# Altium footprint library SparkFun-Connectors.PCBLIB: 386 footprints (part 16 of 25)
Each footprint in its own frame and in the unit in brackets; x right, y up, seen from the top. Pads: shape width x height; smd on the part's side, far side on the other; paste and mask are expansions set on the pad; w line width, h text height; cw(c..) or ccw(c..) is an arc to the next point about the centre after c.
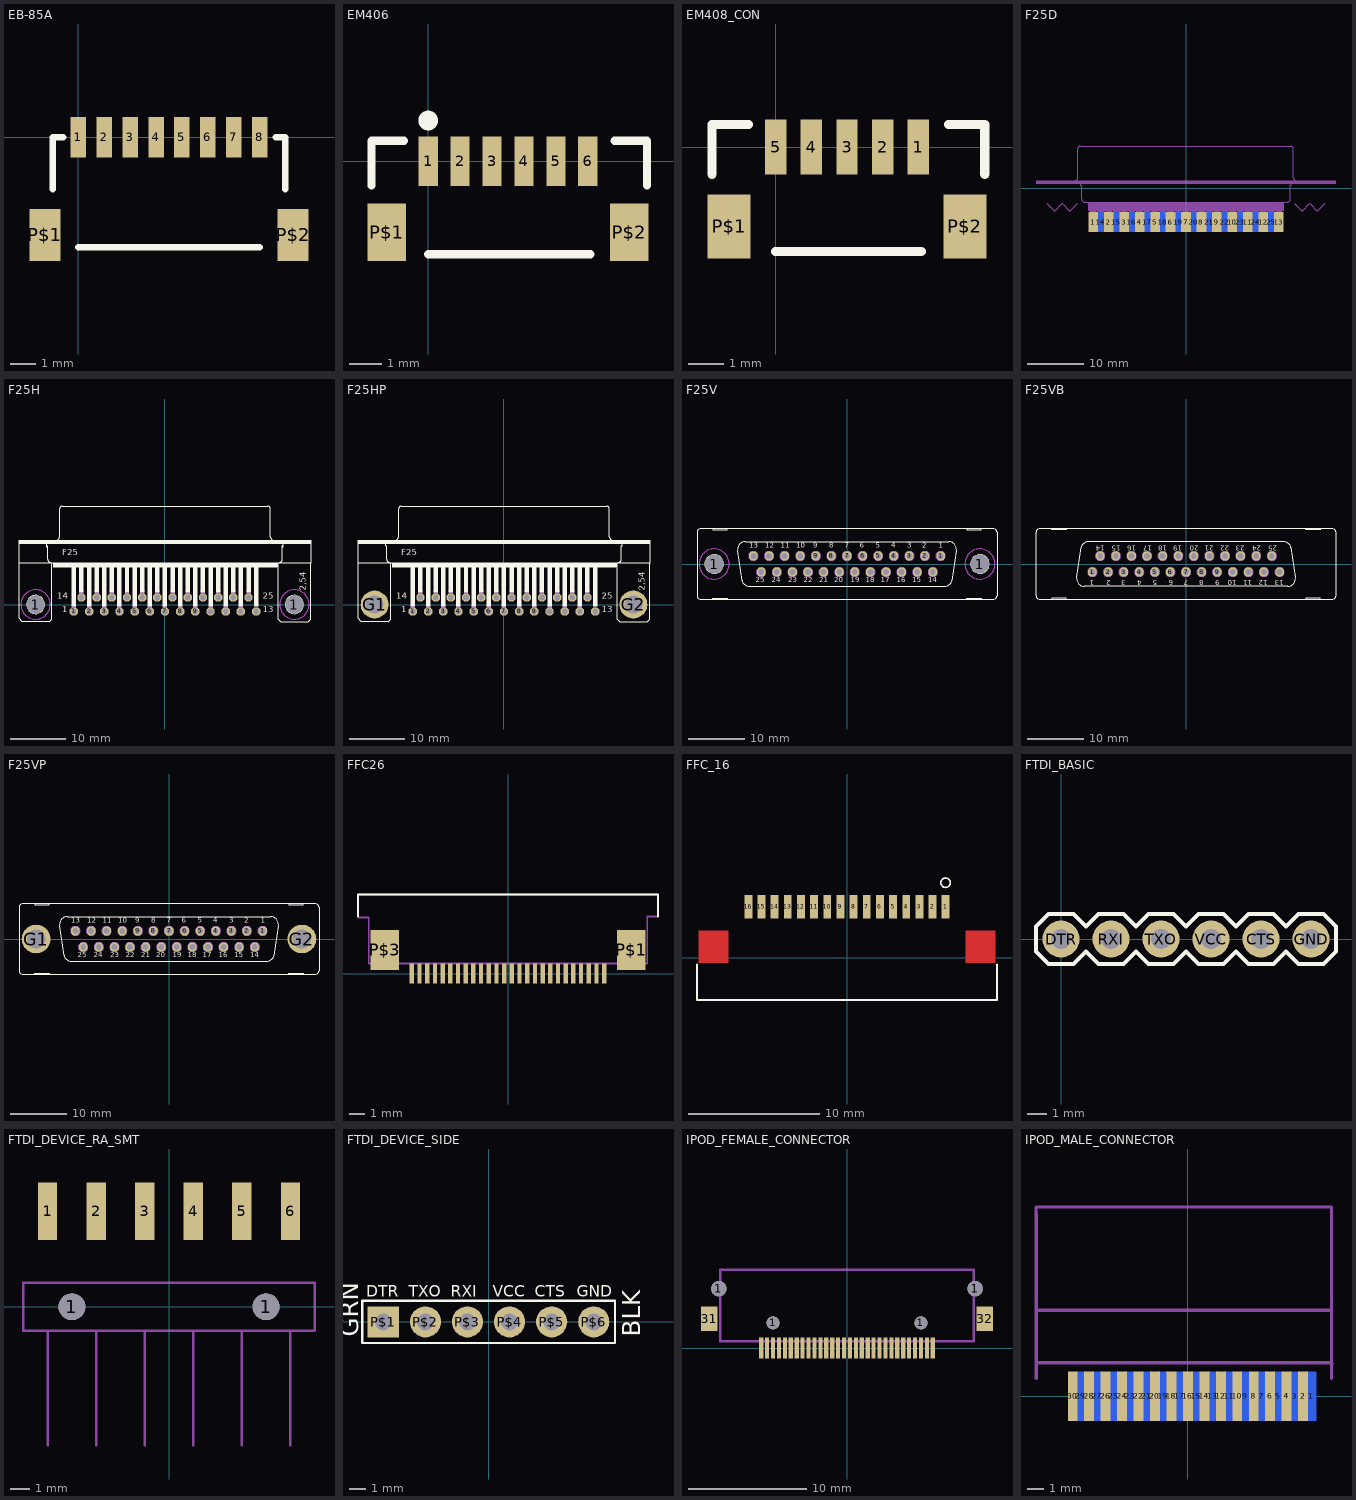
[diagram p15: the footprints below, top view; thin cyan lines are the x and y axes]

## EB-85A [mm]
pads (10):
  rect 0.6x1.55 smd: 1(0,0) 2(1,0) 3(2,0) 4(3,0) 5(4,0) 6(5,0) 7(6,0) 8(7,0)
  rect 1.2x2 smd: P$1(-1.3,-3.775) P$2(8.3,-3.775)
Top Overlay:
  lines w0.254: -1,-2 -1,0 -0.6,0 ; 0,-4.25 7,-4.25 ; 7.625,0 8,0 8,-2

## EM406 [mm]
pads (8):
  rect 0.6x1.55 smd: 1(0,0) 2(1,0) 3(2,0) 4(3,0) 5(4,0) 6(5,0)
  rect 1.2x1.8 smd: P$1(-1.3,-2.225) P$2(6.3,-2.225)
Top Overlay:
  circle w0.406: c0,1.27 r0.105
  lines w0.254: -1.778,-0.762 -1.778,0.635 -0.762,0.635 ; 0,-2.921 5.08,-2.921 ; 5.842,0.635 6.858,0.635 6.858,-0.762

## EM408_CON [mm]
pads (7):
  rect 0.6x1.55 smd: 1(4,0) 2(3,0) 3(2,0) 4(1,0) 5(0,0)
  rect 1.2x1.8 smd: P$1(-1.3,-2.225) P$2(5.3,-2.225)
Top Overlay:
  lines w0.254: -1.778,-0.762 -1.778,0.635 -0.762,0.635 ; 0,-2.921 4.08,-2.921 ; 4.842,0.635 5.858,0.635 5.858,-0.762

## F25D [mil]
pads (25):
  rect 66.93x137.8 smd: 1(-648.01,-237.98) 2(-540,-237.99) 3(-431.99,-237.98) 4(-324.01,-237.98) 5(-215.99,-237.98) 6(-108.01,-237.98) 7(0,-237.99) 8(108.01,-237.98) 9(215.99,-237.98) 10(324.01,-237.98) 11(431.99,-237.98) 12(540,-237.99) 13(648.01,-237.98)
  rect 66.93x137.8 smd far side: 14(-594,-238) 15(-486,-238) 16(-378,-238) 17(-270,-238) 18(-162,-238) 19(-54,-238) 20(54,-238) 21(162,-238) 22(270,-238) 23(378,-238) 24(486,-238) 25(594,-238)
Bottom Overlay:
  text "25" at 626.56,-32.48 h77.5
  text "14" at -553.13,-32.48 h77.5
Mechanical 13:
  lines w0: -972,-108 -918,-162 -864,-108 -810,-162 -756,-108 ; 756,-108 810,-162 864,-108 918,-162 972,-108
  text "Board" at 774,-100 h77.5
  text "Board" at -974,-100 h77.5
Mechanical 16:
  rectangle: -671.62,-258.27 -624.38,-159.84
  rectangle: -563.62,-258.27 -516.38,-159.84
  rectangle: -455.62,-258.27 -408.38,-159.84
  rectangle: -347.62,-258.27 -300.38,-159.84
  rectangle: -239.62,-258.27 -192.38,-159.84
  rectangle: -131.62,-258.27 -84.38,-159.84
  rectangle: -23.62,-258.27 23.62,-159.84
  rectangle: 84.38,-258.27 131.62,-159.84
  rectangle: -1047.24,27.56 1047.24,51.18
  rectangle: -685.04,-161.42 685.04,-98.43
  rectangle: 192.38,-258.27 239.62,-159.84
  rectangle: 300.38,-258.27 347.62,-159.84
  rectangle: 408.38,-258.27 455.62,-159.84
  rectangle: 516.38,-258.27 563.62,-159.84
  rectangle: 624.38,-258.27 671.62,-159.84
  lines w6: -780,48 ccw(c-780,73) -755,73 -755,273 cw(c-735,273) -735,293 730,293 cw(c730,273) 750,273 750,73 ccw(c775,73) 775,48 ; -734,40 -734,20 -729,20 -729,-75 ccw(c-704,-75) -704,-100 ; -704.76,-100 704.76,-100 ; 704,-100 ccw(c704,-75) 729,-75 729,20 734,20 734,40
  text "1" at -665.07,-85.77 h77.5
  text "F25D" at -678,181 h77.5
  text "13" at 612.51,-81.83 h77.5
Mechanical 30:
  rectangle: -617.62,-258.27 -570.38,-159.84
  rectangle: -509.62,-258.27 -462.38,-159.84
  rectangle: -401.62,-258.27 -354.38,-159.84
  rectangle: -293.62,-258.27 -246.38,-159.84
  rectangle: -185.62,-258.27 -138.38,-159.84
  rectangle: -77.62,-258.27 -30.38,-159.84
  rectangle: 30.38,-258.27 77.62,-159.84
  rectangle: 138.38,-258.27 185.62,-159.84
  rectangle: 246.38,-258.27 293.62,-159.84
  rectangle: 354.38,-258.27 401.62,-159.84
  rectangle: 462.38,-258.27 509.62,-159.84
  rectangle: 570.38,-258.27 617.62,-159.84

## F25H [mil]
pads (27):
  round 130 hole 130: 1(-926,0) 1(926,0)
  oct 60x60 hole 40: 1(-652,-50) 2(-543,-50) 3(-435,-50) 4(-326,-50) 5(-217,-50) 6(-109,-50) 7(0,-50) 8(109,-50) 9(217,-50) 10(326,-50) 11(435,-50) 12(543,-50) 13(652,-50) 14(-598,50) 15(-489,50) 16(-380,50) 17(-272,50) 18(-163,50) 19(-54,50) 20(54,50) 21(163,50) 22(272,50) 23(380,50) 24(489,50) 25(598,50)
Top Overlay:
  circle w6: c-926,0 r65
  circle w6: c926,0 r65
  rectangle: -800,270 800,300
  rectangle: -1045,440 1045,460
  rectangle: -668,-15 -636,270
  rectangle: -614,85 -582,270
  rectangle: -559,-15 -527,270
  rectangle: -505,85 -473,270
  rectangle: -451,-15 -419,270
  rectangle: -396,85 -364,270
  rectangle: -342,-15 -310,270
  rectangle: -288,85 -256,270
  rectangle: -233,-15 -201,270
  rectangle: -179,85 -147,270
  rectangle: -125,-15 -93,270
  rectangle: -70,85 -38,270
  rectangle: -16,-15 16,270
  rectangle: 38,85 70,270
  rectangle: 93,-15 125,270
  rectangle: 147,85 179,270
  rectangle: 201,-15 233,270
  rectangle: 255,85 287,270
  rectangle: 310,-15 342,270
  rectangle: 364,85 396,270
  rectangle: 419,-15 451,270
  rectangle: 473,85 505,270
  rectangle: 527,-15 559,270
  rectangle: 582,85 614,270
  rectangle: 636,-15 668,270
  lines w6: -845,410 -845,420 ; -815,300 cw(c-815,325) -840,325 -840,420 -845,420 ; -780,460 ccw(c-780,485) -755,485 -755,685 cw(c-735,685) -735,705 -725,705 725,705 735,705 cw(c735,685) 755,685 755,485 ccw(c780,485) 780,460 ; 815,300 ccw(c815,325) 840,325 840,420 845,420 ; 845,410 845,420 ; -1045,300 -845,300 -810,300 ; -1045,300 -1045,420 -1045,440 ; -1045,300 -1045,295 -1045,-100 -1020,-125 -830,-125 -810,-105 -810,300 ; -1045,440 -1045,460 -740,460 740,460 1045,460 1045,440 ; -1045,440 -945,440 -845,440 ; -845,420 -845,440 ; -845,440 845,440 ; -810,300 -800,300 ; -800,300 -800,270 800,270 800,300 ; -800,300 800,300 ; 800,300 810,300 ; 810,300 845,300 1045,300 ; 810,300 810,-105 830,-125 1025,-125 1045,-105 1045,295 1045,300 ; 845,420 845,440 ; 845,440 945,440 1045,440 ; 1045,300 1045,420 1045,440
  text "1" at -735,-75 h77.5
  text "13" at 700,-75 h77.5
  text "14" at -770,25 h77.5
  text "25" at 700,25 h77.5
  text "2,54" at 1025,100 h77.5
  text "F25" at -735,335 h77.5
Mechanical 9 keep-out:
  circle w0: c-926,0 r105
  circle w0: c926,0 r105
Mechanical 10:
  circle w0: c-926,0 r105
  circle w0: c926,0 r105
Mechanical 16:
  lines w6: 652,-45 652,-5
  lines w32: -652,-45 -652,-5 ; -598,55 -598,95 ; -543,-45 -543,-5 ; -489,55 -489,95 ; -435,-45 -435,-5 ; -380,55 -380,95 ; -326,-45 -326,-5 ; -272,55 -272,95 ; -217,-45 -217,-5 ; -163,55 -163,95 ; -109,-45 -109,-5 ; -54,55 -54,95 ; 0,-45 0,-5 ; 54,55 54,95 ; 109,-45 109,-5 ; 163,55 163,95 ; 217,-45 217,-5 ; 271,55 271,95 ; 326,-45 326,-5 ; 380,55 380,95 ; 435,-45 435,-5 ; 489,55 489,95 ; 543,-45 543,-5 ; 598,55 598,95

## F25HP [mil]
pads (27):
  oct 60x60 hole 40: 1(-652,-50) 2(-543,-50) 3(-435,-50) 4(-326,-50) 5(-217,-50) 6(-109,-50) 7(0,-50) 8(109,-50) 9(217,-50) 10(326,-50) 11(435,-50) 12(543,-50) 13(652,-50) 14(-598,50) 15(-489,50) 16(-380,50) 17(-272,50) 18(-163,50) 19(-54,50) 20(54,50) 21(163,50) 22(272,50) 23(380,50) 24(489,50) 25(598,50)
  round 200 hole 130: G1(-926,0) G2(926,0)
Top Overlay:
  circle w6: c-926,0 r65
  circle w6: c926,0 r65
  rectangle: -800,270 800,300
  rectangle: -1045,440 1045,460
  rectangle: -668,-15 -636,270
  rectangle: -614,85 -582,270
  rectangle: -559,-15 -527,270
  rectangle: -505,85 -473,270
  rectangle: -451,-15 -419,270
  rectangle: -396,85 -364,270
  rectangle: -342,-15 -310,270
  rectangle: -288,85 -256,270
  rectangle: -233,-15 -201,270
  rectangle: -179,85 -147,270
  rectangle: -124,-15 -92,270
  rectangle: -70,85 -38,270
  rectangle: -16,-15 16,270
  rectangle: 38,85 70,270
  rectangle: 93,-15 125,270
  rectangle: 147,85 179,270
  rectangle: 201,-15 233,270
  rectangle: 256,85 288,270
  rectangle: 310,-15 342,270
  rectangle: 364,85 396,270
  rectangle: 419,-15 451,270
  rectangle: 472,85 504,270
  rectangle: 527,-15 559,270
  rectangle: 581,85 613,270
  rectangle: 636,-15 668,270
  lines w6: -815,300 cw(c-815,325) -840,325 -840,420 -845,420 -845,440 ; -780,460 ccw(c-780,485) -755,485 -755,685 cw(c-735,685) -735,705 -725,705 725,705 735,705 cw(c735,685) 755,685 755,485 ccw(c780,485) 780,460 ; 815,300 ccw(c815,325) 840,325 840,420 845,420 845,440 ; -1045,300 -845,300 -810,300 ; -1045,300 -1045,420 -1045,440 ; -1045,300 -1045,295 -1045,-100 -1020,-125 -830,-125 -810,-105 -810,300 ; -1045,440 -1045,460 -740,460 740,460 1045,460 1045,440 ; -1045,440 -945,440 -845,440 ; -845,440 845,440 ; -810,300 -800,300 ; -800,300 -800,270 800,270 800,300 ; -800,300 800,300 ; 800,300 810,300 ; 810,300 845,300 1045,300 ; 810,300 810,-105 830,-125 1025,-125 1045,-105 1045,295 1045,300 ; 845,440 945,440 1045,440 ; 1045,300 1045,420 1045,440
  text "1" at -735,-75 h77.5
  text "13" at 700,-75 h77.5
  text "14" at -770,25 h77.5
  text "25" at 700,25 h77.5
  text "2,54" at 1025,100 h77.5
  text "F25" at -735,335 h77.5
Mechanical 16:
  lines w6: 652,-45 652,-5
  lines w32: -652,-45 -652,-5 ; -598,55 -598,95 ; -543,-45 -543,-5 ; -489,55 -489,95 ; -435,-45 -435,-5 ; -380,55 -380,95 ; -326,-45 -326,-5 ; -272,55 -272,95 ; -217,-45 -217,-5 ; -163,55 -163,95 ; -109,-45 -109,-5 ; -54,55 -54,95 ; 0,-45 0,-5 ; 54,55 54,95 ; 109,-45 109,-5 ; 163,55 163,95 ; 217,-45 217,-5 ; 272,55 272,95 ; 326,-45 326,-5 ; 380,55 380,95 ; 435,-45 435,-5 ; 488,55 488,95 ; 543,-45 543,-5 ; 597,55 597,95

## F25V [mil]
pads (27):
  round 130 hole 130: 1(-926,0) 1(926,0)
  oct 60x60 hole 40: 1(652,56) 2(543,56) 3(435,56) 4(326,56) 5(217,56) 6(109,56) 7(0,56) 8(-109,56) 9(-217,56) 10(-326,56) 11(-435,56) 12(-543,56) 13(-652,56) 14(598,-56) 15(489,-56) 16(380,-56) 17(272,-56) 18(163,-56) 19(54,-56) 20(-54,-56) 21(-163,-56) 22(-272,-56) 23(-380,-56) 24(-489,-56) 25(-598,-56)
Top Overlay:
  circle w6: c-926,0 r65
  circle w6: c926,0 r65
  lines w6: -762,92 -731,-116 ; -761.97,91.61 cw(c-710,102) -710,155 710,155 cw(c710,101.99) 761.79,90.7 ; -731.3,-115.33 ccw(c-680,-101.99) -680,-155 680,-155 ccw(c679.99,-102) 731.52,-114.37 ; 731,-115 762,91 ; -935,-245 -935,-240 -835,-240 -835,-245 ; -935,-245 -835,-245 ; -935,-245 -1020,-245 cw(c-1020,-220) -1045,-220 -1045,220 cw(c-1020,220) -1020,245 -935,245 ; -935,245 -935,240 -835,240 -835,245 ; -935,245 -835,245 ; -835,-245 835,-245 ; -835,245 835,245 ; 835,-245 835,-240 935,-240 935,-245 ; 835,-245 935,-245 ; 835,245 835,240 935,240 935,245 ; 835,245 935,245 ; 935,-245 1020,-245 ccw(c1020,-220) 1045,-220 1045,220 ccw(c1020,220) 1020,245 935,245
  text "1" at 640,100 h60.45
  text "2" at 525,100 h60.45
  text "3" at 420,100 h60.45
  text "4" at 310,100 h60.45
  text "5" at 200,100 h60.45
  text "6" at 90,100 h60.45
  text "7" at -15,100 h60.45
  text "8" at -125,100 h60.45
  text "9" at -235,100 h60.45
  text "10" at -355,100 h60.45
  text "11" at -460,100 h60.45
  text "12" at -570,100 h60.45
  text "13" at -680,100 h60.45
  text "25" at -635,-140 h60.45
  text "24" at -525,-140 h60.45
  text "23" at -410,-140 h60.45
  text "22" at -300,-140 h60.45
  text "21" at -195,-140 h60.45
  text "20" at -90,-140 h60.45
  text "19" at 25,-140 h60.45
  text "18" at 130,-140 h60.45
  text "17" at 235,-140 h60.45
  text "16" at 345,-140 h60.45
  text "15" at 455,-140 h60.45
  text "14" at 565,-140 h60.45
Mechanical 9 keep-out:
  circle w0: c926,0 r105
  circle w0: c-926,0 r105
Mechanical 10:
  circle w0: c926,0 r105
  circle w0: c-926,0 r105
Mechanical 16:
  circle w10: c54,-56 r30
  circle w10: c0,56 r30
  circle w10: c-54,-56 r30
  circle w10: c109,56 r30
  circle w10: c-109,56 r30
  circle w10: c163,-56 r30
  circle w10: c-163,-56 r30
  circle w10: c217,56 r30
  circle w10: c326,56 r30
  circle w10: c272,-56 r30
  circle w10: c380,-56 r30
  circle w10: c435,56 r30
  circle w10: c489,-56 r30
  circle w10: c543,56 r30
  circle w10: c598,-56 r30
  circle w10: c652,56 r30
  circle w10: c-217,56 r30
  circle w10: c-326,56 r30
  circle w10: c-435,56 r30
  circle w10: c-272,-56 r30
  circle w10: c-380,-56 r30
  circle w10: c-489,-56 r30
  circle w10: c-543,56 r30
  circle w10: c-652,56 r30
  circle w10: c-598,-56 r30

## F25VB [mil]
pads (25):
  oct 60x60 hole 40: 1(-652,-56) 2(-543,-56) 3(-435,-56) 4(-326,-56) 5(-217,-56) 6(-109,-56) 7(0,-56) 8(109,-56) 9(217,-56) 10(326,-56) 11(435,-56) 12(543,-56) 13(652,-56) 14(-598,56) 15(-489,56) 16(-380,56) 17(-272,56) 18(-163,56) 19(-54,56) 20(54,56) 21(163,56) 22(272,56) 23(380,56) 24(489,56) 25(598,56)
Top Overlay:
  lines w6: -762,-91 -731,115 ; -761.79,-90.7 ccw(c-710,-101.99) -710,-155 710,-155 ccw(c710,-102) 761.97,-91.61 ; -731.52,114.37 cw(c-679.99,102) -680,155 680,155 cw(c680,101.99) 731.3,115.33 ; 731,116 762,-92 ; -935,-245 -1020,-245 cw(c-1020,-220) -1045,-220 -1045,220 cw(c-1020,220) -1020,245 -935,245 ; -935,-245 -935,-240 -835,-240 -835,-245 ; -935,-245 -835,-245 ; -935,245 -835,245 ; -935,245 -935,240 -835,240 -835,245 ; -835,-245 835,-245 ; -835,245 835,245 ; 835,-245 835,-240 935,-240 935,-245 ; 835,-245 935,-245 ; 835,245 935,245 ; 835,245 835,240 935,240 935,245 ; 935,-245 1020,-245 ccw(c1020,-220) 1045,-220 1045,220 ccw(c1020,220) 1020,245 935,245
  text "1" at -640,-100 h60.45
  text "2" at -525,-100 h60.45
  text "3" at -420,-100 h60.45
  text "4" at -310,-100 h60.45
  text "5" at -200,-100 h60.45
  text "6" at -90,-100 h60.45
  text "7" at 15,-100 h60.45
  text "8" at 125,-100 h60.45
  text "9" at 235,-100 h60.45
  text "10" at 355,-100 h60.45
  text "11" at 460,-100 h60.45
  text "12" at 570,-100 h60.45
  text "13" at 680,-100 h60.45
  text "25" at 635,140 h60.45
  text "24" at 525,140 h60.45
  text "23" at 410,140 h60.45
  text "22" at 300,140 h60.45
  text "21" at 195,140 h60.45
  text "20" at 90,140 h60.45
  text "19" at -25,140 h60.45
  text "18" at -130,140 h60.45
  text "17" at -235,140 h60.45
  text "16" at -345,140 h60.45
  text "15" at -455,140 h60.45
  text "14" at -565,140 h60.45
Mechanical 16:
  circle w10: c-54,56 r30
  circle w10: c0,-56 r30
  circle w10: c54,56 r30
  circle w10: c-109,-56 r30
  circle w10: c109,-56 r30
  circle w10: c-163,56 r30
  circle w10: c163,56 r30
  circle w10: c-217,-56 r30
  circle w10: c-326,-56 r30
  circle w10: c-272,56 r30
  circle w10: c-380,56 r30
  circle w10: c-435,-56 r30
  circle w10: c-489,56 r30
  circle w10: c-543,-56 r30
  circle w10: c-598,56 r30
  circle w10: c-652,-56 r30
  circle w10: c217,-56 r30
  circle w10: c326,-56 r30
  circle w10: c435,-56 r30
  circle w10: c272,56 r30
  circle w10: c380,56 r30
  circle w10: c489,56 r30
  circle w10: c543,-56 r30
  circle w10: c652,-56 r30
  circle w10: c598,56 r30

## F25VP [mil]
pads (27):
  oct 60x60 hole 40: 1(652,56) 2(543,56) 3(435,56) 4(326,56) 5(217,56) 6(109,56) 7(0,56) 8(-109,56) 9(-217,56) 10(-326,56) 11(-435,56) 12(-543,56) 13(-652,56) 14(598,-56) 15(489,-56) 16(380,-56) 17(272,-56) 18(163,-56) 19(54,-56) 20(-54,-56) 21(-163,-56) 22(-272,-56) 23(-380,-56) 24(-489,-56) 25(-598,-56)
  round 200 hole 130: G1(-926,0) G2(926,0)
Top Overlay:
  circle w6: c-926,0 r65
  circle w6: c926,0 r65
  lines w6: -762,92 -731,-116 ; -761.97,91.61 cw(c-710,102) -710,155 710,155 cw(c710,101.99) 761.79,90.7 ; -731.3,-115.33 ccw(c-680,-101.99) -680,-155 680,-155 ccw(c679.99,-102) 731.52,-114.37 ; 731,-115 762,91 ; -935,-245 -935,-240 -835,-240 -835,-245 ; -935,-245 -835,-245 ; -935,-245 -1020,-245 cw(c-1020,-220) -1045,-220 -1045,220 cw(c-1020,220) -1020,245 -935,245 ; -935,245 -935,240 -835,240 -835,245 ; -935,245 -835,245 ; -835,-245 835,-245 ; -835,245 835,245 ; 835,-245 835,-240 935,-240 935,-245 ; 835,-245 935,-245 ; 835,245 835,240 935,240 935,245 ; 835,245 935,245 ; 935,-245 1020,-245 ccw(c1020,-220) 1045,-220 1045,220 ccw(c1020,220) 1020,245 935,245
  text "1" at 640,100 h60.45
  text "2" at 525,100 h60.45
  text "3" at 420,100 h60.45
  text "4" at 310,100 h60.45
  text "5" at 200,100 h60.45
  text "6" at 90,100 h60.45
  text "7" at -15,100 h60.45
  text "8" at -125,100 h60.45
  text "9" at -235,100 h60.45
  text "10" at -355,100 h60.45
  text "11" at -460,100 h60.45
  text "12" at -570,100 h60.45
  text "13" at -680,100 h60.45
  text "25" at -635,-140 h60.45
  text "24" at -525,-140 h60.45
  text "23" at -410,-140 h60.45
  text "22" at -300,-140 h60.45
  text "21" at -195,-140 h60.45
  text "20" at -90,-140 h60.45
  text "19" at 25,-140 h60.45
  text "18" at 130,-140 h60.45
  text "17" at 235,-140 h60.45
  text "16" at 345,-140 h60.45
  text "15" at 455,-140 h60.45
  text "14" at 565,-140 h60.45
Mechanical 16:
  circle w10: c54,-56 r30
  circle w10: c0,56 r30
  circle w10: c-54,-56 r30
  circle w10: c109,56 r30
  circle w10: c-109,56 r30
  circle w10: c163,-56 r30
  circle w10: c-163,-56 r30
  circle w10: c217,56 r30
  circle w10: c326,56 r30
  circle w10: c272,-56 r30
  circle w10: c380,-56 r30
  circle w10: c435,56 r30
  circle w10: c489,-56 r30
  circle w10: c543,56 r30
  circle w10: c598,-56 r30
  circle w10: c652,56 r30
  circle w10: c-217,56 r30
  circle w10: c-326,56 r30
  circle w10: c-435,56 r30
  circle w10: c-272,-56 r30
  circle w10: c-380,-56 r30
  circle w10: c-489,-56 r30
  circle w10: c-543,56 r30
  circle w10: c-652,56 r30
  circle w10: c-598,-56 r30

## FFC26 [mil]
pads (28):
  rect 11.02x51.18 smd: 1(246.06,0) 2(226.38,0) 3(206.69,0) 4(187.01,0) 5(167.32,0) 6(147.64,0) 7(127.95,0) 8(108.27,0) 9(88.58,0) 10(68.9,0) 11(49.21,0) 12(29.53,0) 13(9.84,0) 14(-9.84,0) 15(-29.53,0) 16(-49.21,0) 17(-68.9,0) 18(-88.58,0) 19(-108.27,0) 20(-127.95,0) 21(-147.64,0) 22(-167.32,0) 23(-187.01,0) 24(-206.69,0) 25(-226.38,0) 26(-246.06,0)
  rect 72.83x102.36 smd: P$1(315.94,61.02) P$3(-315.94,61.02)
Top Overlay:
  lines w5: -383.86,145.67 -383.86,202.76 383.86,202.76 383.86,145.67
Mechanical 16:
  rectangle: 5.91,-17.72 13.78,25.59
  rectangle: -33.46,-17.72 -25.59,25.59
  rectangle: -72.83,-17.72 -64.96,25.59
  rectangle: -112.2,-17.72 -104.33,25.59
  rectangle: -151.57,-17.72 -143.7,25.59
  rectangle: -190.94,-17.72 -183.07,25.59
  rectangle: -230.32,-17.72 -222.44,25.59
  rectangle: 45.28,-17.72 53.15,25.59
  rectangle: 84.65,-17.72 92.52,25.59
  rectangle: 124.02,-17.72 131.89,25.59
  rectangle: 163.39,-17.72 171.26,25.59
  rectangle: 202.76,-17.72 210.63,25.59
  rectangle: 242.13,-17.72 250,25.59
  rectangle: -250,-17.72 -242.13,25.59
  rectangle: -210.63,-17.72 -202.76,25.59
  rectangle: -171.26,-17.72 -163.39,25.59
  rectangle: -131.89,-17.72 -124.02,25.59
  rectangle: -92.52,-17.72 -84.65,25.59
  rectangle: -53.15,-17.72 -45.28,25.59
  rectangle: -13.78,-17.72 -5.91,25.59
  rectangle: 25.59,-17.72 33.46,25.59
  rectangle: 64.96,-17.72 72.83,25.59
  rectangle: 104.33,-17.72 112.2,25.59
  rectangle: 143.7,-17.72 151.57,25.59
  rectangle: 183.07,-17.72 190.94,25.59
  rectangle: 222.44,-17.72 230.32,25.59
  rectangle: -349.61,25.59 -282.68,100.39
  rectangle: 281.89,25.59 348.82,100.39
  lines w5: -383.86,143.7 -383.86,202.76 383.86,202.76 383.86,145.67 356.3,145.67 356.3,112.99 356.3,25.59 -356.3,25.59 -356.3,143.7 -383.86,143.7

## FFC_16 [mil]
pads (16):
  rect 23.62x70.87 smd: 1(295.28,153.54) 2(255.91,153.54) 3(216.54,153.54) 4(177.17,153.54) 5(137.8,153.54) 6(98.43,153.54) 7(59.06,153.54) 8(19.69,153.54) 9(-19.69,153.54) 10(-59.06,153.54) 11(-98.43,153.54) 12(-137.8,153.54) 13(-177.17,153.54) 14(-216.54,153.54) 15(-255.91,153.54) 16(-295.28,153.54)
Top Layer:
  rectangle: -444.88,-15.75 -354.33,82.68
  rectangle: 354.33,-15.75 444.88,82.68
Top Overlay:
  circle w5: c295,225 r14.14
  lines w5: -448.82,-19.69 -448.82,-125.98 448.82,-125.98 448.82,-19.69
Top Paste:
  region: 0,0 10,0 10,10 0,10
  region: 0,0 10,0 10,10 0,10
Top Solder:
  region: 0,0 10,0 10,10 0,10
  region: 0,0 10,0 10,10 0,10

## FTDI_BASIC [mil]
pads (6):
  round 74 hole 40: CTS(400,0) DTR(0,0) GND(500,0) RXI(100,0) TXO(200,0) VCC(300,0)
Top Overlay:
  lines w8: -50,-25 -50,25 -25,50 25,50 50,25 75,50 125,50 150,25 175,50 225,50 250,25 275,50 325,50 350,25 375,50 425,50 450,25 475,50 525,50 550,25 550,-25 525,-50 475,-50 450,-25 425,-50 375,-50 350,-25 325,-50 275,-50 250,-25 225,-50 175,-50 150,-25 125,-50 75,-50 50,-25 25,-50 -25,-50 -50,-25
Mechanical 16:
  rectangle: 490,-10 510,10
  rectangle: 390,-10 410,10
  rectangle: 290,-10 310,10
  rectangle: 190,-10 210,10
  rectangle: 90,-10 110,10
  rectangle: -10,-10 10,10
  text "GRN" at 25,75 h77.5
  text "BLK" at 525,75 h77.5

## FTDI_DEVICE_RA_SMT [mm]
pads (8):
  rect 1x3 smd: 1(-6.35,5) 2(-3.81,5) 3(-1.27,5) 4(1.27,5) 5(3.81,5) 6(6.35,5)
  round 1.4 hole 1.4: 1(-5.08,0) 1(5.08,0)
Mechanical 16:
  lines w0.127: -6.35,-7.25 -6.35,-1.25 ; -3.81,-7.25 -3.81,-1.25 ; -1.27,-7.25 -1.27,-1.25 ; 1.27,-7.25 1.27,-1.25 ; 3.81,-7.25 3.81,-1.25 ; 6.35,-7.25 6.35,-1.25 ; -6.35,-1.25 -7.62,-1.25 -7.62,1.25 7.62,1.25 7.62,-1.25 6.35,-1.25 ; -6.35,-1.25 -3.81,-1.25 ; -3.81,-1.25 -1.27,-1.25 ; -1.27,-1.25 1.27,-1.25 ; 1.27,-1.25 3.81,-1.25 ; 3.81,-1.25 6.35,-1.25
  text "TXO" at -3.81,-1.016 h0.69
  text "RXI" at -1.27,-1.016 h0.69
  text "VCC" at 1.27,-1.016 h0.69
  text "DTR" at -6.35,-1.016 h0.69
  text "GND" at 6.35,-1.016 h0.69
  text "CTS" at 3.81,-1.016 h0.69
  text "GRN" at -7.366,-2.54 h0.69
  text "BLK" at 7.366,-2.54 h0.69

## FTDI_DEVICE_SIDE [mil]
pads (6):
  rect 74x74 hole 40: P$1(-250,0)
  round 74 hole 40: P$2(-150,0) P$3(-50,0) P$4(50,0) P$5(150,0) P$6(250,0)
Top Overlay:
  lines w5: -300,-50 300,-50 300,50 -300,50 -300,-50
  text "GRN" at -310,-35 h42.5
  text "BLK" at 360,-35 h42.5
  text "TXO" at -190,60 h27.2
  text "RXI" at -90,60 h27.2
  text "VCC" at 10,60 h27.2
  text "DTR" at -290,60 h27.2
  text "GND" at 210,60 h27.2
  text "CTS" at 110,60 h27.2

## IPOD_FEMALE_CONNECTOR [mm]
pads (36):
  round 1.3 hole 1.3: 1(-10.825,5.025) 1(10.825,5.025)
  rect 0.35x1.75 smd: 1(-7.25,0) 2(-6.75,0) 3(-6.25,0) 4(-5.75,0) 5(-5.25,0) 6(-4.75,0) 7(-4.25,0) 8(-3.75,0) 9(-3.25,0) 10(-2.75,0) 11(-2.25,0) 12(-1.75,0) 13(-1.25,0) 14(-0.75,0) 15(-0.25,0) 16(0.25,0) 17(0.75,0) 18(1.25,0) 19(1.75,0) 20(2.25,0) 21(2.75,0) 22(3.25,0) 23(3.75,0) 24(4.25,0) 25(4.75,0) 26(5.25,0) 27(5.75,0) 28(6.25,0) 29(6.75,0) 30(7.25,0)
  round 1.1 hole 1.1: 1(-6.25,2.125) 1(6.25,2.125)
  rect 1.4x2.05 smd: 31(-11.65,2.475) 32(11.65,2.475)
Mechanical 16:
  lines w0.203: -10.7,0.575 10.7,0.575 10.7,6.625 -10.7,6.625 -10.7,0.575

## IPOD_MALE_CONNECTOR [mm]
pads (30):
  rect 0.6x3 smd far side: 1(7.5,0) 3(6.5,0) 5(5.5,0) 7(4.5,0) 9(3.5,0) 11(2.5,0) 13(1.5,0) 15(0.5,0) 17(-0.5,0) 19(-1.5,0) 21(-2.5,0) 23(-3.5,0) 25(-4.5,0) 27(-5.5,0) 29(-6.5,0)
  rect 0.6x3 smd: 2(7,0) 4(6,0) 6(5,0) 8(4,0) 10(3,0) 12(2,0) 14(1,0) 16(0,0) 18(-1,0) 20(-2,0) 22(-3,0) 24(-4,0) 26(-5,0) 28(-6,0) 30(-7,0)
Mechanical 16:
  lines w0.203: -9.232,5.224 8.727,5.224 8.727,4.883 ; -9.229,2.027 8.733,2.027 8.733,1.914 ; -9.229,11.078 -9.229,11.497 8.727,11.497 8.727,4.883 ; -9.225,1.1 -9.225,11.1 ; 8.725,1.1 8.725,4.1 ; 8.727,4.089 8.727,4.883